# EAGLE library part S70GL02GS* (library NewSDR)
S70GL-S MirrorBit ® Eclipse? Flash Non-Volatile Memory
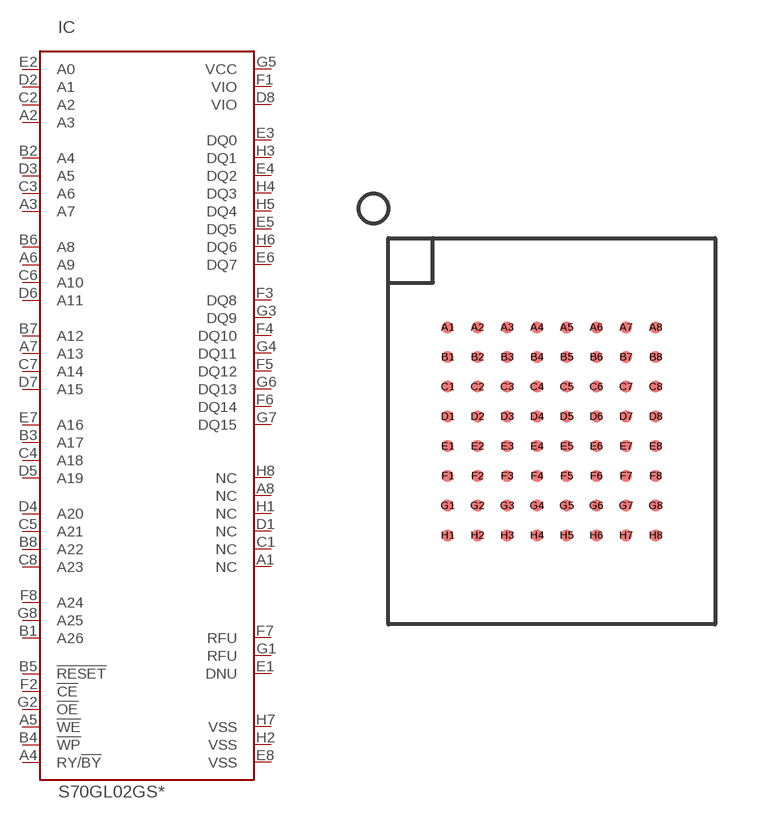
[diagram p168: symbol with the pads of BGA64C100P8X8; footprint BGA64C100P8X8]

Designator prefix IC

## S70GL02GS11FHI01, S70GL02GS11FHI02, S70GL02GS12FHIV1, S70GL02GS12FHIV2  [BGA64C100P8X8]
A1  NC  nc
A2  A3  in
A3  A7  in
A4  RY/!BY  in
A5  !WE  in
A6  A9  in
A7  A13  in
A8  NC  nc
B1  A26  in
B2  A4  in
B3  A17  in
B4  !WP  in
B5  !RESET  in
B6  A8  in
B7  A12  in
B8  A22  in
C1  NC  nc
C2  A2  in
C3  A6  in
C4  A18  in
C5  A21  in
C6  A10  in
C7  A14  in
C8  A23  in
D1  NC  nc
D2  A1  in
D3  A5  in
D4  A20  in
D5  A19  in
D6  A11  in
D7  A15  in
D8  VIO  pwr
E1  DNU  nc
E2  A0  in
E3  DQ0
E4  DQ2
E5  DQ5
E6  DQ7
E7  A16  in
E8  VSS  pwr
F1  VIO  pwr
F2  !CE  in
F3  DQ8
F4  DQ10
F5  DQ12
F6  DQ14
F7  RFU  nc
F8  A24  in
G1  RFU  nc
G2  !OE  in
G3  DQ9
G4  DQ11
G5  VCC  pwr
G6  DQ13
G7  DQ15
G8  A25  in
H1  NC  nc
H2  VSS  pwr
H3  DQ1
H4  DQ3
H5  DQ4
H6  DQ6
H7  VSS  pwr
H8  NC  nc

## S70GL02GS-INVERT  [BGA64C100P8X8]
A1  NC  nc
A2  A13  in
A3  A9  in
A4  !WE  in
A5  RY/!BY  in
A6  A7  in
A7  A3  in
A8  NC  nc
B1  A22  in
B2  A12  in
B3  A8  in
B4  !RESET  in
B5  !WP  in
B6  A17  in
B7  A4  in
B8  A26  in
C1  A23  in
C2  A14  in
C3  A10  in
C4  A21  in
C5  A18  in
C6  A6  in
C7  A2  in
C8  NC  nc
D1  VIO  pwr
D2  A15  in
D3  A11  in
D4  A19  in
D5  A20  in
D6  A5  in
D7  A1  in
D8  NC  nc
E1  VSS  pwr
E2  A16  in
E3  DQ7
E4  DQ5
E5  DQ2
E6  DQ0
E7  A0  in
E8  DNU  nc
F1  A24  in
F2  RFU  nc
F3  DQ14
F4  DQ12
F5  DQ10
F6  DQ8
F7  !CE  in
F8  VIO  pwr
G1  A25  in
G2  DQ15
G3  DQ13
G4  VCC  pwr
G5  DQ11
G6  DQ9
G7  !OE  in
G8  RFU  nc
H1  NC  nc
H2  VSS  pwr
H3  DQ6
H4  DQ4
H5  DQ3
H6  DQ1
H7  VSS  pwr
H8  NC  nc

## Footprint BGA64C100P8X8 (pad centres in mm)
1mm Pitch 8x8 Row BGA
smd 0.4 x 0.4: A1 -3.5,3.5; A2 -2.5,3.5; A3 -1.5,3.5; A4 -0.5,3.5; A5 0.5,3.5; A6 1.5,3.5; A7 2.5,3.5; A8 3.5,3.5; B1 -3.5,2.5; B2 -2.5,2.5; B3 -1.5,2.5; B4 -0.5,2.5; B5 0.5,2.5; B6 1.5,2.5; B7 2.5,2.5; B8 3.5,2.5; C1 -3.5,1.5; C2 -2.5,1.5; C3 -1.5,1.5; C4 -0.5,1.5; C5 0.5,1.5; C6 1.5,1.5; C7 2.5,1.5; C8 3.5,1.5; D1 -3.5,0.5; D2 -2.5,0.5; D3 -1.5,0.5; D4 -0.5,0.5; D5 0.5,0.5; D6 1.5,0.5; D7 2.5,0.5; D8 3.5,0.5; E1 -3.5,-0.5; E2 -2.5,-0.5; E3 -1.5,-0.5; E4 -0.5,-0.5; E5 0.5,-0.5; E6 1.5,-0.5; E7 2.5,-0.5; E8 3.5,-0.5; F1 -3.5,-1.5; F2 -2.5,-1.5; F3 -1.5,-1.5; F4 -0.5,-1.5; F5 0.5,-1.5; F6 1.5,-1.5; F7 2.5,-1.5; F8 3.5,-1.5; G1 -3.5,-2.5; G2 -2.5,-2.5; G3 -1.5,-2.5; G4 -0.5,-2.5; G5 0.5,-2.5; G6 1.5,-2.5; G7 2.5,-2.5; G8 3.5,-2.5; H1 -3.5,-3.5; H2 -2.5,-3.5; H3 -1.5,-3.5; H4 -0.5,-3.5; H5 0.5,-3.5; H6 1.5,-3.5; H7 2.5,-3.5; H8 3.5,-3.5